# Altium footprint library BMS_Master.PcbLib: 1 footprints
Each footprint in its own frame and in the unit in brackets; x right, y up, seen from the top. Pads: shape width x height; smd on the part's side, far side on the other; paste and mask are expansions set on the pad; w line width, h text height; cw(c..) or ccw(c..) is an arc to the next point about the centre after c.
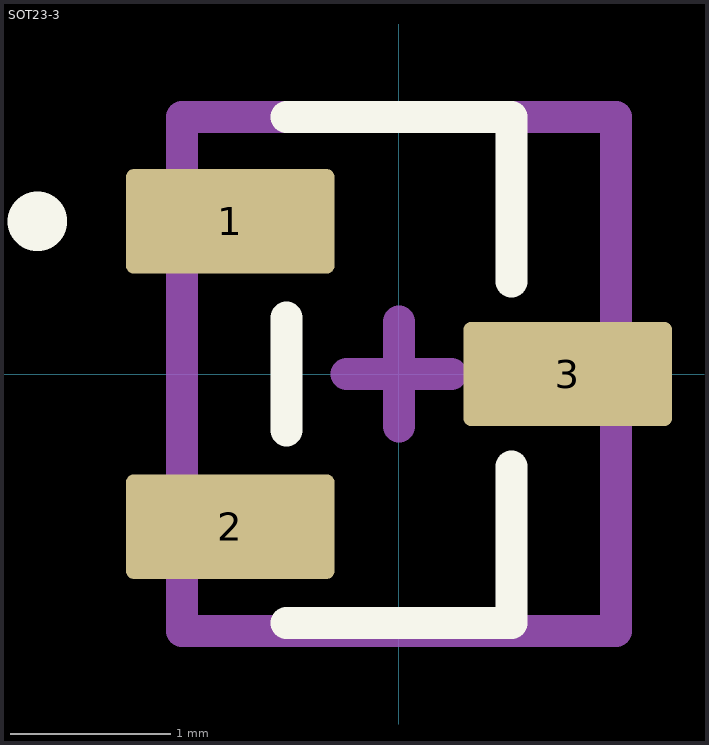
[diagram p0: the footprint, top view; thin cyan lines are the x and y axes]

## SOT23-3 [mm] "SOT23 Package"
pads (3):
  rrect15% 1.3x0.65 smd mask+0.07: 1(-1.05,0.95)
  rrect15% 1.3x0.65 smd paste+0 mask+0.07: 2(-1.05,-0.95)
  rrect15% 1.3x0.65 smd paste-2539.97 mask+0.07: 3(1.05,0)
Top Overlay:
  circle w0.35: c-2.25,0.95 r0.01
  lines w0.2: -0.7,-1.55 0.7,-1.55 0.7,-1.45 0.7,-0.575 ; -0.7,-0.35 -0.7,0.35 ; -0.7,1.6 0.7,1.6 0.7,1.5 0.7,0.575
Top Paste:
  region: 0.4,-0.275 0.4,0.275 0.4,0.285 0.408,0.303 0.422,0.317 0.44,0.325 0.45,0.325 1.65,0.325 1.66,0.325 1.678,0.317 1.692,0.303 1.7,0.285 1.7,0.275 1.7,-0.275 1.7,-0.285 1.692,-0.303 1.678,-0.317 1.66,-0.325 1.65,-0.325 0.45,-0.325 0.44,-0.325 0.422,-0.317 0.408,-0.303 0.4,-0.285
Top Component Outline:
  lines w0.2: -1.35,-1.6 1.35,-1.6 1.35,1.6 -1.35,1.6 -1.35,-1.6
Top Component Center:
  lines w0.2: -0.325,0 0.325,0 ; 0,-0.325 0,0.325
Top Designator:
  text ".Designator" at -1.3,-1.4 h0.6
3D body "SOT-23.step": height 1.01, standoff -0.09, extent -1.25,-1.5 1.25,1.5